# EAGLE library part MA18-2 (library we-con)
Pin Header
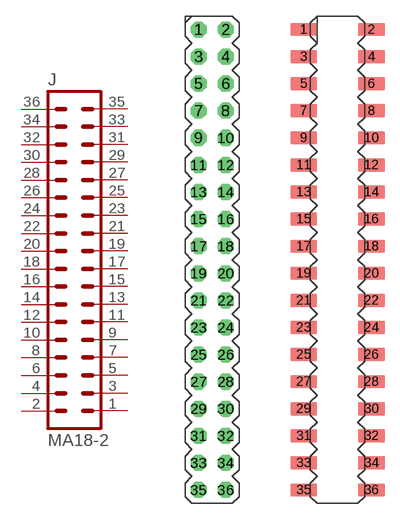
[diagram p19: symbol with the pads of MA18-2; footprints MA18-2, MA18-2_SMD]

Designator prefix J

## MA18-2  [MA18-2]
1  1  pas
2  2  pas
3  3  pas
4  4  pas
5  5  pas
6  6  pas
7  7  pas
8  8  pas
9  9  pas
10  10  pas
11  11  pas
12  12  pas
13  13  pas
14  14  pas
15  15  pas
16  16  pas
17  17  pas
18  18  pas
19  19  pas
20  20  pas
21  21  pas
22  22  pas
23  23  pas
24  24  pas
25  25  pas
26  26  pas
27  27  pas
28  28  pas
29  29  pas
30  30  pas
31  31  pas
32  32  pas
33  33  pas
34  34  pas
35  35  pas
36  36  pas

## MA18-2S  [MA18-2_SMD]
Pads as for MA18-2

## Footprint MA18-2 (pad centres in mm)
drill 1 octagon: 1 -1.27,21.59; 2 1.27,21.59; 3 -1.27,19.05; 4 1.27,19.05; 5 -1.27,16.51; 6 1.27,16.51; 7 -1.27,13.97; 8 1.27,13.97; 9 -1.27,11.43; 10 1.27,11.43; 11 -1.27,8.89; 12 1.27,8.89; 13 -1.27,6.35; 14 1.27,6.35; 15 -1.27,3.81; 16 1.27,3.81; 17 -1.27,1.27; 18 1.27,1.27; 19 -1.27,-1.27; 20 1.27,-1.27; 21 -1.27,-3.81; 22 1.27,-3.81; 23 -1.27,-6.35; 24 1.27,-6.35; 25 -1.27,-8.89; 26 1.27,-8.89; 27 -1.27,-11.43; 28 1.27,-11.43; 29 -1.27,-13.97; 30 1.27,-13.97; 31 -1.27,-16.51; 32 1.27,-16.51; 33 -1.27,-19.05; 34 1.27,-19.05; 35 -1.27,-21.59; 36 1.27,-21.59

## Footprint MA18-2_SMD (pad centres in mm)
smd 2.54 x 1.27: 1 -3.175,21.59; 2 3.175,21.59; 3 -3.175,19.05; 4 3.175,19.05; 5 -3.175,16.51; 6 3.175,16.51; 7 -3.175,13.97; 8 3.175,13.97; 9 -3.175,11.43; 10 3.175,11.43; 11 -3.175,8.89; 12 3.175,8.89; 13 -3.175,6.35; 14 3.175,6.35; 15 -3.175,3.81; 16 3.175,3.81; 17 -3.175,1.27; 18 3.175,1.27; 19 -3.175,-1.27; 20 3.175,-1.27; 21 -3.175,-3.81; 22 3.175,-3.81; 23 -3.175,-6.35; 24 3.175,-6.35; 25 -3.175,-8.89; 26 3.175,-8.89; 27 -3.175,-11.43; 28 3.175,-11.43; 29 -3.175,-13.97; 30 3.175,-13.97; 31 -3.175,-16.51; 32 3.175,-16.51; 33 -3.175,-19.05; 34 3.175,-19.05; 35 -3.175,-21.59; 36 3.175,-21.59